# EAGLE library part PIC24FJ256GB610 (library MIDI router MCU parts)
PIC24FJ256GB110 edit this description Auto generated by make-symbol-device-package-bsdl.ulp Rev. 25 Source: PIC24FJ256GB110.bsd
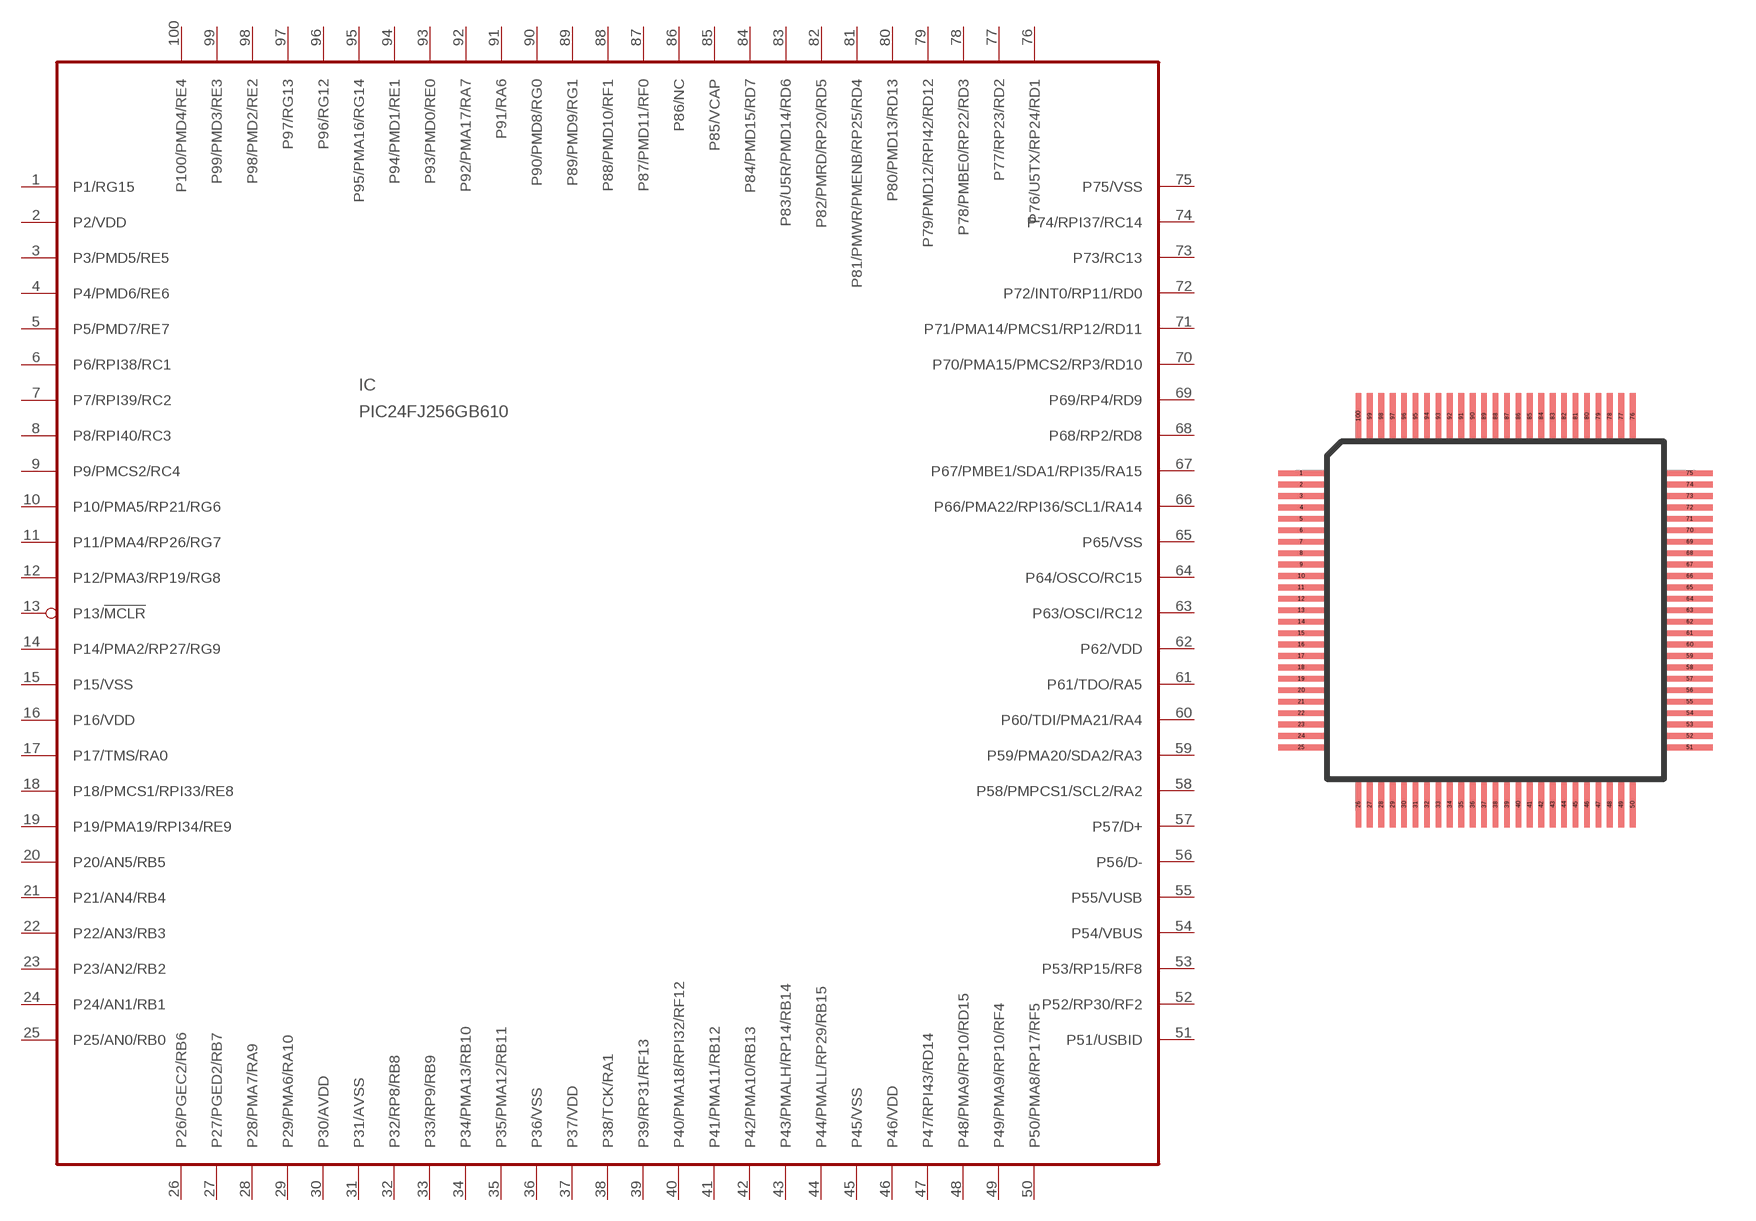
[diagram p2: symbol with the pads of TQFP100-12X12; footprint TQFP100-12X12]

Designator prefix IC

## PIC24FJ256GB610  [TQFP100-12X12]
1  P1/RG15  pas
2  P2/VDD  pas
3  P3/PMD5/RE5  pas
4  P4/PMD6/RE6  pas
5  P5/PMD7/RE7  pas
6  P6/RPI38/RC1  pas
7  P7/RPI39/RC2  pas
8  P8/RPI40/RC3  pas
9  P9/PMCS2/RC4  pas
10  P10/PMA5/RP21/RG6  pas
11  P11/PMA4/RP26/RG7  pas
12  P12/PMA3/RP19/RG8  pas
13  P13/!MCLR  pas
14  P14/PMA2/RP27/RG9  pas
15  P15/VSS  pas
16  P16/VDD  pas
17  P17/TMS/RA0  pas
18  P18/PMCS1/RPI33/RE8  pas
19  P19/PMA19/RPI34/RE9  pas
20  P20/AN5/RB5  pas
21  P21/AN4/RB4  pas
22  P22/AN3/RB3  pas
23  P23/AN2/RB2  pas
24  P24/AN1/RB1  pas
25  P25/AN0/RB0  pas
26  P26/PGEC2/RB6  pas
27  P27/PGED2/RB7  pas
28  P28/PMA7/RA9  pas
29  P29/PMA6/RA10  pas
30  P30/AVDD  pas
31  P31/AVSS  pas
32  P32/RP8/RB8  pas
33  P33/RP9/RB9  pas
34  P34/PMA13/RB10  pas
35  P35/PMA12/RB11  pas
36  P36/VSS  pas
37  P37/VDD  pas
38  P38/TCK/RA1  pas
39  P39/RP31/RF13  pas
40  P40/PMA18/RPI32/RF12  pas
41  P41/PMA11/RB12  pas
42  P42/PMA10/RB13  pas
43  P43/PMALH/RP14/RB14  pas
44  P44/PMALL/RP29/RB15  pas
45  P45/VSS  pas
46  P46/VDD  pas
47  P47/RPI43/RD14  pas
48  P48/PMA9/RP10/RD15  pas
49  P49/PMA9/RP10/RF4  pas
50  P50/PMA8/RP17/RF5  pas
51  P51/USBID  pas
52  P52/RP30/RF2  pas
53  P53/RP15/RF8  pas
54  P54/VBUS  pas
55  P55/VUSB  pas
56  P56/D-  pas
57  P57/D+  pas
58  P58/PMPCS1/SCL2/RA2  pas
59  P59/PMA20/SDA2/RA3  pas
60  P60/TDI/PMA21/RA4  pas
61  P61/TDO/RA5  pas
62  P62/VDD  pas
63  P63/OSCI/RC12  pas
64  P64/OSCO/RC15  pas
65  P65/VSS  pas
66  P66/PMA22/RPI36/SCL1/RA14  pas
67  P67/PMBE1/SDA1/RPI35/RA15  pas
68  P68/RP2/RD8  pas
69  P69/RP4/RD9  pas
70  P70/PMA15/PMCS2/RP3/RD10  pas
71  P71/PMA14/PMCS1/RP12/RD11  pas
72  P72/INT0/RP11/RD0  pas
73  P73/RC13  pas
74  P74/RPI37/RC14  pas
75  P75/VSS  pas
76  P76/U5TX/RP24/RD1  pas
77  P77/RP23/RD2  pas
78  P78/PMBE0/RP22/RD3  pas
79  P79/PMD12/RPI42/RD12  pas
80  P80/PMD13/RD13  pas
81  P81/PMWR/PMENB/RP25/RD4  pas
82  P82/PMRD/RP20/RD5  pas
83  P83/U5R/PMD14/RD6  pas
84  P84/PMD15/RD7  pas
85  P85/VCAP  pas
86  P86/NC  pas
87  P87/PMD11/RF0  pas
88  P88/PMD10/RF1  pas
89  P89/PMD9/RG1  pas
90  P90/PMD8/RG0  pas
91  P91/RA6  pas
92  P92/PMA17/RA7  pas
93  P93/PMD0/RE0  pas
94  P94/PMD1/RE1  pas
95  P95/PMA16/RG14  pas
96  P96/RG12  pas
97  P97/RG13  pas
98  P98/PMD2/RE2  pas
99  P99/PMD3/RE3  pas
100  P100/PMD4/RE4  pas

## Footprint TQFP100-12X12 (pad centres in mm)
TQFP100_12X12 Auto generated by make-symbol-device-package-bsdl.ulp Rev. 41
smd 1.6 x 0.2: 1 -6.8,4.8; 2 -6.8,4.4; 3 -6.8,4; 4 -6.8,3.6; 5 -6.8,3.2; 6 -6.8,2.8; 7 -6.8,2.4; 8 -6.8,2; 9 -6.8,1.6; 10 -6.8,1.2; 11 -6.8,0.8; 12 -6.8,0.4; 13 -6.8,0; 14 -6.8,-0.4; 15 -6.8,-0.8; 16 -6.8,-1.2; 17 -6.8,-1.6; 18 -6.8,-2; 19 -6.8,-2.4; 20 -6.8,-2.8; 21 -6.8,-3.2; 22 -6.8,-3.6; 23 -6.8,-4; 24 -6.8,-4.4; 25 -6.8,-4.8; 51 6.8,-4.8; 52 6.8,-4.4; 53 6.8,-4; 54 6.8,-3.6; 55 6.8,-3.2; 56 6.8,-2.8; 57 6.8,-2.4; 58 6.8,-2; 59 6.8,-1.6; 60 6.8,-1.2; 61 6.8,-0.8; 62 6.8,-0.4; 63 6.8,0; 64 6.8,0.4; 65 6.8,0.8; 66 6.8,1.2; 67 6.8,1.6; 68 6.8,2; 69 6.8,2.4; 70 6.8,2.8; 71 6.8,3.2; 72 6.8,3.6; 73 6.8,4; 74 6.8,4.4; 75 6.8,4.8
smd 0.2 x 1.6: 26 -4.8,-6.8; 27 -4.4,-6.8; 28 -4,-6.8; 29 -3.6,-6.8; 30 -3.2,-6.8; 31 -2.8,-6.8; 32 -2.4,-6.8; 33 -2,-6.8; 34 -1.6,-6.8; 35 -1.2,-6.8; 36 -0.8,-6.8; 37 -0.4,-6.8; 38 0,-6.8; 39 0.4,-6.8; 40 0.8,-6.8; 41 1.2,-6.8; 42 1.6,-6.8; 43 2,-6.8; 44 2.4,-6.8; 45 2.8,-6.8; 46 3.2,-6.8; 47 3.6,-6.8; 48 4,-6.8; 49 4.4,-6.8; 50 4.8,-6.8; 76 4.8,6.8; 77 4.4,6.8; 78 4,6.8; 79 3.6,6.8; 80 3.2,6.8; 81 2.8,6.8; 82 2.4,6.8; 83 2,6.8; 84 1.6,6.8; 85 1.2,6.8; 86 0.8,6.8; 87 0.4,6.8; 88 0,6.8; 89 -0.4,6.8; 90 -0.8,6.8; 91 -1.2,6.8; 92 -1.6,6.8; 93 -2,6.8; 94 -2.4,6.8; 95 -2.8,6.8; 96 -3.2,6.8; 97 -3.6,6.8; 98 -4,6.8; 99 -4.4,6.8; 100 -4.8,6.8